# Altium schematic symbol library BAT46W-7-F.Schlib: 1 symbol
Pins are listed as number, name and electrical type; pins without a type are passive.

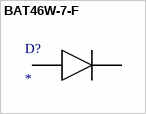
[diagram p0: symbol BAT46W-7-F]

## BAT46W-7-F
designator D?
Diode Schottky 100 V 150mA (DC) Surface Mount SOD-123
pins: 1 C, 2 A